# EAGLE library part MOC3043 (library OpticalSwitch)
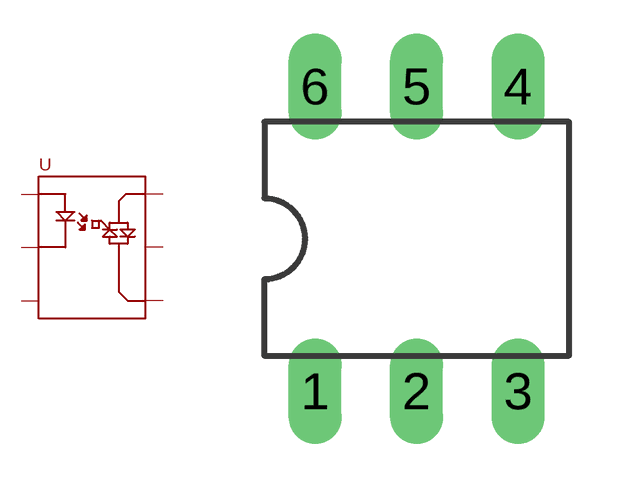
[diagram p1: symbol with the pads of DIL06; footprint DIL06]

Designator prefix -

## MOC3043  [DIL06]
1  LED_IN
2  LED_OUT
3  N/C
4  SIM2
5  N/C2
6  SIM1

## Footprint DIL06 (pad centres in mm)
Dual In Line Package
drill 0.813 long: 1 -2.54,-3.81; 2 0,-3.81; 3 2.54,-3.81; 4 2.54,3.81; 5 0,3.81; 6 -2.54,3.81